# Altium integrated library National Semiconductor Switcher.IntLib: 2226 symbols (part 43 of 59)
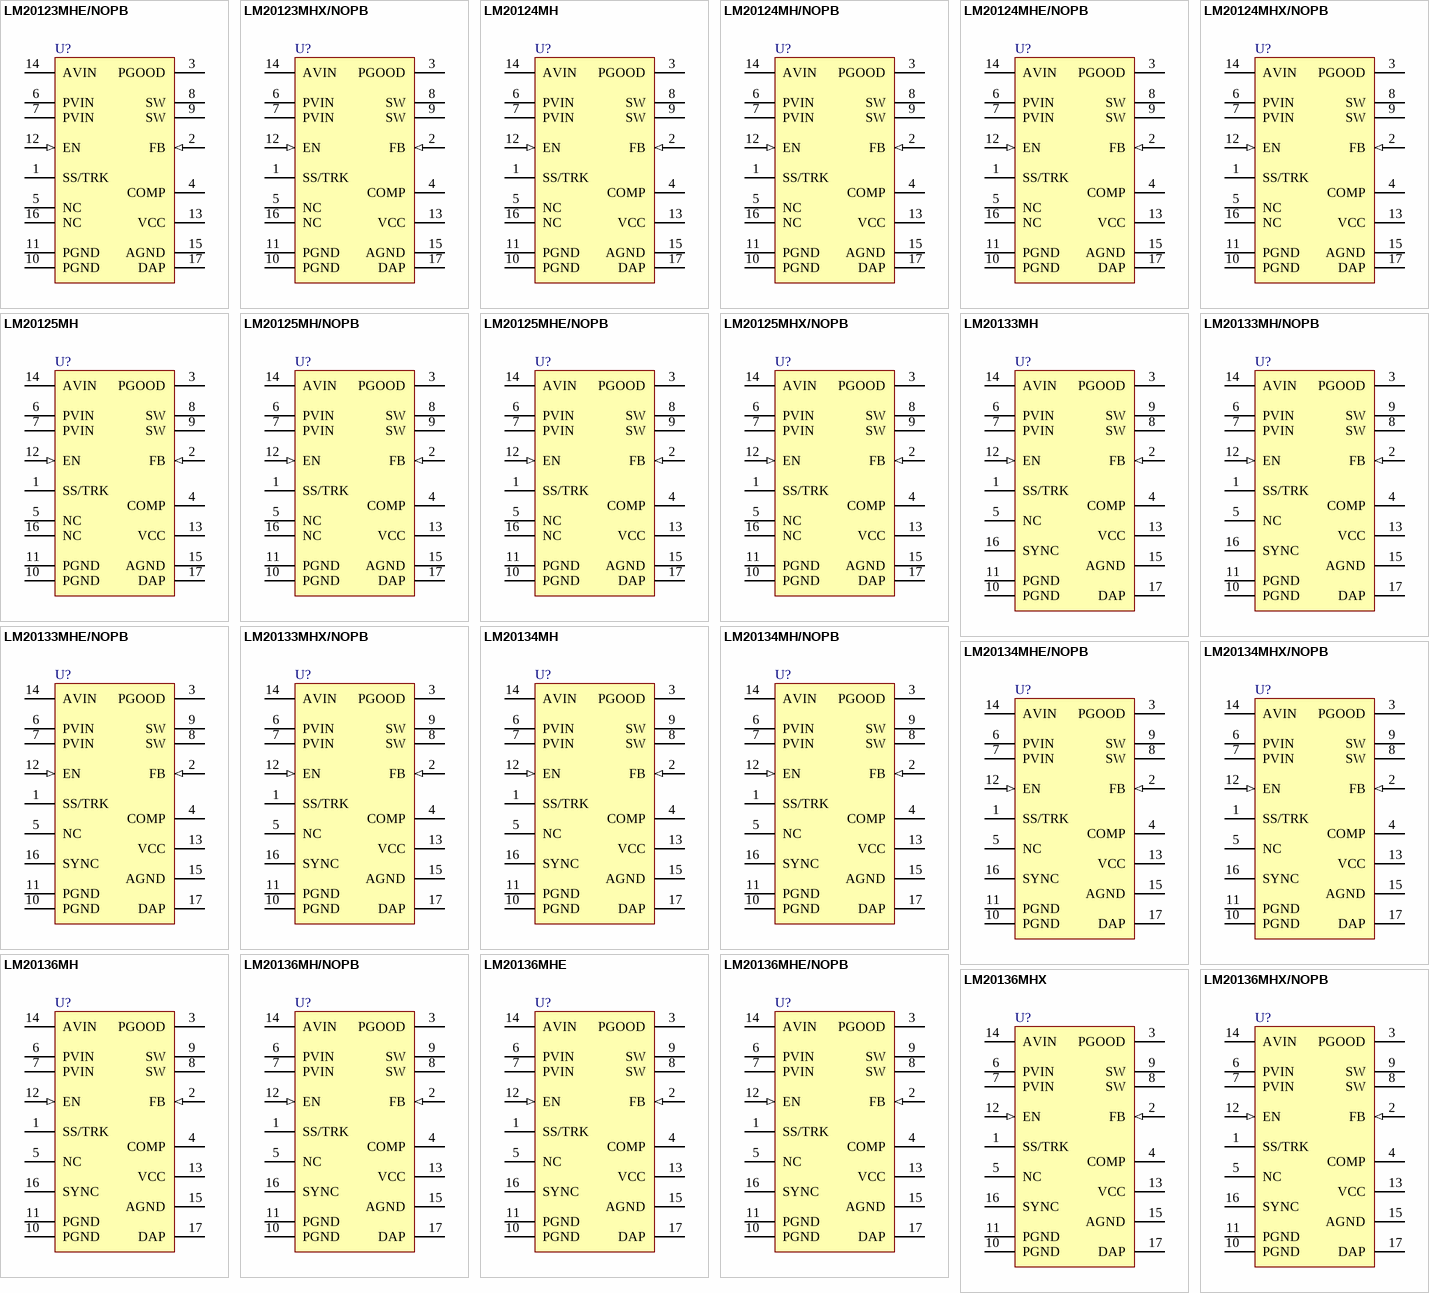
[diagram p111: symbols LM20123MHE/NOPB to LM20136MHX/NOPB]

## LM20124MHE/NOPB
designator U?
4A, 1MHz PowerWise Synchronous Buck Regulator, 16-pin TSSOP-EP, Pb-Free; PartNumber: LM20124MHE/NOPB; Manufacturer: National Semiconductor; PackageTopMarking: NSUZXYTT*20124*MH; PowerWise: Y; CompType: Switcher; DatasheetVersion: Jan-2008; PackageVersion: revA, Apr-2003; PackageReference: MXA16A; PackageDescription: Molded TSSOP, Jedec, Exposed Pad, 5.0 x 4.4 x 0.9mm Body,16 Lead, 0.65mm Pitch; RoHS: Y; PinCount: 16; High-Reliability: Y; Code_JEDEC: MO-153-ABT; ComponentLink1Description: Manufacturer URL; ComponentLink1URL: http://www.national.com/; ComponentLink2Description: LM20124 Datasheet; ComponentLink2URL: http://www.national.com/ds/LM/LM20124.pdf; ComponentLink3Description: LM20124 Web Page; ComponentLink3URL: http://www.national.com/pf/LM/LM20124.html; ComponentLink4Description: MXA16A Package Page; ComponentLink4URL: http://www.national.com/packaging/folders/mxa16a.html
footprint MXA16A_N (TSOP, 16-Leads, Body 5x4.4mm, Pitch 0.65mm, Thermal Pad, IPC Medium Density)
footprint MXA16A_L (TSOP, 16-Leads, Body 5x4.4mm, Pitch 0.65mm, Thermal Pad, IPC High Density)
footprint MXA16A_M (TSOP, 16-Leads, Body 5x4.4mm, Pitch 0.65mm, Thermal Pad, IPC Low Density)
pins: 1 SS/TRK, 2 FB (in), 3 PGOOD (oc), 4 COMP, 5 NC, 6 PVIN (power), 7 PVIN (power), 8 SW (power), 9 SW (power), 10 PGND (power), 11 PGND (power), 12 EN (in), 13 VCC (power), 14 AVIN (power), 15 AGND (power), 16 NC, 17 DAP (power)

## LM20124MHX/NOPB
designator U?
4A, 1MHz PowerWise Synchronous Buck Regulator, 16-pin TSSOP-EP, Pb-Free; PartNumber: LM20124MHX/NOPB; Manufacturer: National Semiconductor; PackageTopMarking: NSUZXYTT*20124*MH; PowerWise: Y; CompType: Switcher; DatasheetVersion: Jan-2008; PackageVersion: revA, Apr-2003; PackageReference: MXA16A; PackageDescription: Molded TSSOP, Jedec, Exposed Pad, 5.0 x 4.4 x 0.9mm Body,16 Lead, 0.65mm Pitch; RoHS: Y; PinCount: 16; High-Reliability: Y; Code_JEDEC: MO-153-ABT; ComponentLink1Description: Manufacturer URL; ComponentLink1URL: http://www.national.com/; ComponentLink2Description: LM20124 Datasheet; ComponentLink2URL: http://www.national.com/ds/LM/LM20124.pdf; ComponentLink3Description: LM20124 Web Page; ComponentLink3URL: http://www.national.com/pf/LM/LM20124.html; ComponentLink4Description: MXA16A Package Page; ComponentLink4URL: http://www.national.com/packaging/folders/mxa16a.html
footprint MXA16A_N (TSOP, 16-Leads, Body 5x4.4mm, Pitch 0.65mm, Thermal Pad, IPC Medium Density)
footprint MXA16A_L (TSOP, 16-Leads, Body 5x4.4mm, Pitch 0.65mm, Thermal Pad, IPC High Density)
footprint MXA16A_M (TSOP, 16-Leads, Body 5x4.4mm, Pitch 0.65mm, Thermal Pad, IPC Low Density)
pins: 1 SS/TRK, 2 FB (in), 3 PGOOD (oc), 4 COMP, 5 NC, 6 PVIN (power), 7 PVIN (power), 8 SW (power), 9 SW (power), 10 PGND (power), 11 PGND (power), 12 EN (in), 13 VCC (power), 14 AVIN (power), 15 AGND (power), 16 NC, 17 DAP (power)

## LM20125MH
designator U?
5A, 500kHz PowerWise Synchronous Buck Regulator, 16-pin TSSOP-EP; PartNumber: LM20125MH; Manufacturer: National Semiconductor; PackageTopMarking: NSUZXYTT*20125*MH; PowerWise: Y; CompType: Switcher; DatasheetVersion: Jan-2008; PackageVersion: revA, Apr-2003; PackageReference: MXA16A; PackageDescription: Molded TSSOP, Jedec, Exposed Pad, 5.0 x 4.4 x 0.9mm Body,16 Lead, 0.65mm Pitch; RoHS: Y; PinCount: 16; High-Reliability: Y; Code_JEDEC: MO-153-ABT; ComponentLink1Description: Manufacturer URL; ComponentLink1URL: http://www.national.com/; ComponentLink2Description: LM20125 Datasheet; ComponentLink2URL: http://www.national.com/ds/LM/LM20125.pdf; ComponentLink3Description: LM20125 Web Page; ComponentLink3URL: http://www.national.com/pf/LM/LM20125.html; ComponentLink4Description: MXA16A Package Page; ComponentLink4URL: http://www.national.com/packaging/folders/mxa16a.html
footprint MXA16A_N (TSOP, 16-Leads, Body 5x4.4mm, Pitch 0.65mm, Thermal Pad, IPC Medium Density)
footprint MXA16A_L (TSOP, 16-Leads, Body 5x4.4mm, Pitch 0.65mm, Thermal Pad, IPC High Density)
footprint MXA16A_M (TSOP, 16-Leads, Body 5x4.4mm, Pitch 0.65mm, Thermal Pad, IPC Low Density)
pins: 1 SS/TRK, 2 FB (in), 3 PGOOD (oc), 4 COMP, 5 NC, 6 PVIN (power), 7 PVIN (power), 8 SW (power), 9 SW (power), 10 PGND (power), 11 PGND (power), 12 EN (in), 13 VCC (power), 14 AVIN (power), 15 AGND (power), 16 NC, 17 DAP (power)

## LM20125MH/NOPB
designator U?
5A, 500kHz PowerWise Synchronous Buck Regulator, 16-pin TSSOP-EP, Pb-Free; PartNumber: LM20125MH/NOPB; Manufacturer: National Semiconductor; PackageTopMarking: NSUZXYTT*20125*MH; PowerWise: Y; CompType: Switcher; DatasheetVersion: Jan-2008; PackageVersion: revA, Apr-2003; PackageReference: MXA16A; PackageDescription: Molded TSSOP, Jedec, Exposed Pad, 5.0 x 4.4 x 0.9mm Body,16 Lead, 0.65mm Pitch; RoHS: Y; PinCount: 16; High-Reliability: Y; Code_JEDEC: MO-153-ABT; ComponentLink1Description: Manufacturer URL; ComponentLink1URL: http://www.national.com/; ComponentLink2Description: LM20125 Datasheet; ComponentLink2URL: http://www.national.com/ds/LM/LM20125.pdf; ComponentLink3Description: LM20125 Web Page; ComponentLink3URL: http://www.national.com/pf/LM/LM20125.html; ComponentLink4Description: MXA16A Package Page; ComponentLink4URL: http://www.national.com/packaging/folders/mxa16a.html
footprint MXA16A_N (TSOP, 16-Leads, Body 5x4.4mm, Pitch 0.65mm, Thermal Pad, IPC Medium Density)
footprint MXA16A_L (TSOP, 16-Leads, Body 5x4.4mm, Pitch 0.65mm, Thermal Pad, IPC High Density)
footprint MXA16A_M (TSOP, 16-Leads, Body 5x4.4mm, Pitch 0.65mm, Thermal Pad, IPC Low Density)
pins: 1 SS/TRK, 2 FB (in), 3 PGOOD (oc), 4 COMP, 5 NC, 6 PVIN (power), 7 PVIN (power), 8 SW (power), 9 SW (power), 10 PGND (power), 11 PGND (power), 12 EN (in), 13 VCC (power), 14 AVIN (power), 15 AGND (power), 16 NC, 17 DAP (power)

## LM20125MHE/NOPB
designator U?
5A, 500kHz PowerWise Synchronous Buck Regulator, 16-pin TSSOP-EP, Pb-Free; PartNumber: LM20125MHE/NOPB; Manufacturer: National Semiconductor; PackageTopMarking: NSUZXYTT*20125*MH; PowerWise: Y; CompType: Switcher; DatasheetVersion: Jan-2008; PackageVersion: revA, Apr-2003; PackageReference: MXA16A; PackageDescription: Molded TSSOP, Jedec, Exposed Pad, 5.0 x 4.4 x 0.9mm Body,16 Lead, 0.65mm Pitch; RoHS: Y; PinCount: 16; High-Reliability: Y; Code_JEDEC: MO-153-ABT; ComponentLink1Description: Manufacturer URL; ComponentLink1URL: http://www.national.com/; ComponentLink2Description: LM20125 Datasheet; ComponentLink2URL: http://www.national.com/ds/LM/LM20125.pdf; ComponentLink3Description: LM20125 Web Page; ComponentLink3URL: http://www.national.com/pf/LM/LM20125.html; ComponentLink4Description: MXA16A Package Page; ComponentLink4URL: http://www.national.com/packaging/folders/mxa16a.html
footprint MXA16A_N (TSOP, 16-Leads, Body 5x4.4mm, Pitch 0.65mm, Thermal Pad, IPC Medium Density)
footprint MXA16A_L (TSOP, 16-Leads, Body 5x4.4mm, Pitch 0.65mm, Thermal Pad, IPC High Density)
footprint MXA16A_M (TSOP, 16-Leads, Body 5x4.4mm, Pitch 0.65mm, Thermal Pad, IPC Low Density)
pins: 1 SS/TRK, 2 FB (in), 3 PGOOD (oc), 4 COMP, 5 NC, 6 PVIN (power), 7 PVIN (power), 8 SW (power), 9 SW (power), 10 PGND (power), 11 PGND (power), 12 EN (in), 13 VCC (power), 14 AVIN (power), 15 AGND (power), 16 NC, 17 DAP (power)

## LM20125MHX/NOPB
designator U?
5A, 500kHz PowerWise Synchronous Buck Regulator, 16-pin TSSOP-EP, Pb-Free; PartNumber: LM20125MHX/NOPB; Manufacturer: National Semiconductor; PackageTopMarking: NSUZXYTT*20125*MH; PowerWise: Y; CompType: Switcher; DatasheetVersion: Jan-2008; PackageVersion: revA, Apr-2003; PackageReference: MXA16A; PackageDescription: Molded TSSOP, Jedec, Exposed Pad, 5.0 x 4.4 x 0.9mm Body,16 Lead, 0.65mm Pitch; RoHS: Y; PinCount: 16; High-Reliability: Y; Code_JEDEC: MO-153-ABT; ComponentLink1Description: Manufacturer URL; ComponentLink1URL: http://www.national.com/; ComponentLink2Description: LM20125 Datasheet; ComponentLink2URL: http://www.national.com/ds/LM/LM20125.pdf; ComponentLink3Description: LM20125 Web Page; ComponentLink3URL: http://www.national.com/pf/LM/LM20125.html; ComponentLink4Description: MXA16A Package Page; ComponentLink4URL: http://www.national.com/packaging/folders/mxa16a.html
footprint MXA16A_N (TSOP, 16-Leads, Body 5x4.4mm, Pitch 0.65mm, Thermal Pad, IPC Medium Density)
footprint MXA16A_L (TSOP, 16-Leads, Body 5x4.4mm, Pitch 0.65mm, Thermal Pad, IPC High Density)
footprint MXA16A_M (TSOP, 16-Leads, Body 5x4.4mm, Pitch 0.65mm, Thermal Pad, IPC Low Density)
pins: 1 SS/TRK, 2 FB (in), 3 PGOOD (oc), 4 COMP, 5 NC, 6 PVIN (power), 7 PVIN (power), 8 SW (power), 9 SW (power), 10 PGND (power), 11 PGND (power), 12 EN (in), 13 VCC (power), 14 AVIN (power), 15 AGND (power), 16 NC, 17 DAP (power)

## LM20133MH
designator U?
3A, PowerWise Synchronous Buck Regulator with Input Synchronization, 16-pin TSSOP-EP; PartNumber: LM20133MH; Manufacturer: National Semiconductor; PackageTopMarking: NSUZXYTT*20133*MH; PowerWise: Y; CompType: Switcher; DatasheetVersion: Jan-2008; PackageVersion: revA, Apr-2003; PackageReference: MXA16A; PackageDescription: Molded TSSOP, Jedec, Exposed Pad, 5.0 x 4.4 x 0.9mm Body,16 Lead, 0.65mm Pitch; RoHS: Y; PinCount: 16; High-Reliability: Y; Code_JEDEC: MO-153-ABT; ComponentLink1Description: Manufacturer URL; ComponentLink1URL: http://www.national.com/; ComponentLink2Description: LM20133 Datasheet; ComponentLink2URL: http://www.national.com/ds/LM/LM20133.pdf; ComponentLink3Description: LM20133 Web Page; ComponentLink3URL: http://www.national.com/pf/LM/LM20133.html; ComponentLink4Description: MXA16A Package Page; ComponentLink4URL: http://www.national.com/packaging/folders/mxa16a.html
footprint MXA16A_N (TSOP, 16-Leads, Body 5x4.4mm, Pitch 0.65mm, Thermal Pad, IPC Medium Density)
footprint MXA16A_L (TSOP, 16-Leads, Body 5x4.4mm, Pitch 0.65mm, Thermal Pad, IPC High Density)
footprint MXA16A_M (TSOP, 16-Leads, Body 5x4.4mm, Pitch 0.65mm, Thermal Pad, IPC Low Density)
pins: 1 SS/TRK, 2 FB (in), 3 PGOOD (oc), 4 COMP, 5 NC, 6 PVIN (power), 7 PVIN (power), 8 SW (power), 9 SW (power), 10 PGND (power), 11 PGND (power), 12 EN (in), 13 VCC (power), 14 AVIN (power), 15 AGND (power), 16 SYNC, 17 DAP (power)

## LM20133MH/NOPB
designator U?
3A, PowerWise Synchronous Buck Regulator with Input Synchronization, 16-pin TSSOP-EP, Pb-Free; PartNumber: LM20133MH/NOPB; Manufacturer: National Semiconductor; PackageTopMarking: NSUZXYTT*20133*MH; PowerWise: Y; CompType: Switcher; DatasheetVersion: Jan-2008; PackageVersion: revA, Apr-2003; PackageReference: MXA16A; PackageDescription: Molded TSSOP, Jedec, Exposed Pad, 5.0 x 4.4 x 0.9mm Body,16 Lead, 0.65mm Pitch; RoHS: Y; PinCount: 16; High-Reliability: Y; Code_JEDEC: MO-153-ABT; ComponentLink1Description: Manufacturer URL; ComponentLink1URL: http://www.national.com/; ComponentLink2Description: LM20133 Datasheet; ComponentLink2URL: http://www.national.com/ds/LM/LM20133.pdf; ComponentLink3Description: LM20133 Web Page; ComponentLink3URL: http://www.national.com/pf/LM/LM20133.html; ComponentLink4Description: MXA16A Package Page; ComponentLink4URL: http://www.national.com/packaging/folders/mxa16a.html
footprint MXA16A_N (TSOP, 16-Leads, Body 5x4.4mm, Pitch 0.65mm, Thermal Pad, IPC Medium Density)
footprint MXA16A_L (TSOP, 16-Leads, Body 5x4.4mm, Pitch 0.65mm, Thermal Pad, IPC High Density)
footprint MXA16A_M (TSOP, 16-Leads, Body 5x4.4mm, Pitch 0.65mm, Thermal Pad, IPC Low Density)
pins: 1 SS/TRK, 2 FB (in), 3 PGOOD (oc), 4 COMP, 5 NC, 6 PVIN (power), 7 PVIN (power), 8 SW (power), 9 SW (power), 10 PGND (power), 11 PGND (power), 12 EN (in), 13 VCC (power), 14 AVIN (power), 15 AGND (power), 16 SYNC, 17 DAP (power)

## LM20133MHE/NOPB
designator U?
3A, PowerWise Synchronous Buck Regulator with Input Synchronization, 16-pin TSSOP-EP, Pb-Free; PartNumber: LM20133MHE/NOPB; Manufacturer: National Semiconductor; PackageTopMarking: NSUZXYTT*20133*MH; PowerWise: Y; CompType: Switcher; DatasheetVersion: Jan-2008; PackageVersion: revA, Apr-2003; PackageReference: MXA16A; PackageDescription: Molded TSSOP, Jedec, Exposed Pad, 5.0 x 4.4 x 0.9mm Body,16 Lead, 0.65mm Pitch; RoHS: Y; PinCount: 16; High-Reliability: Y; Code_JEDEC: MO-153-ABT; ComponentLink1Description: Manufacturer URL; ComponentLink1URL: http://www.national.com/; ComponentLink2Description: LM20133 Datasheet; ComponentLink2URL: http://www.national.com/ds/LM/LM20133.pdf; ComponentLink3Description: LM20133 Web Page; ComponentLink3URL: http://www.national.com/pf/LM/LM20133.html; ComponentLink4Description: MXA16A Package Page; ComponentLink4URL: http://www.national.com/packaging/folders/mxa16a.html
footprint MXA16A_N (TSOP, 16-Leads, Body 5x4.4mm, Pitch 0.65mm, Thermal Pad, IPC Medium Density)
footprint MXA16A_L (TSOP, 16-Leads, Body 5x4.4mm, Pitch 0.65mm, Thermal Pad, IPC High Density)
footprint MXA16A_M (TSOP, 16-Leads, Body 5x4.4mm, Pitch 0.65mm, Thermal Pad, IPC Low Density)
pins: 1 SS/TRK, 2 FB (in), 3 PGOOD (oc), 4 COMP, 5 NC, 6 PVIN (power), 7 PVIN (power), 8 SW (power), 9 SW (power), 10 PGND (power), 11 PGND (power), 12 EN (in), 13 VCC (power), 14 AVIN (power), 15 AGND (power), 16 SYNC, 17 DAP (power)

## LM20133MHX/NOPB
designator U?
3A, PowerWise Synchronous Buck Regulator with Input Synchronization, 16-pin TSSOP-EP, Pb-Free; PartNumber: LM20133MHX/NOPB; Manufacturer: National Semiconductor; PackageTopMarking: NSUZXYTT*20133*MH; PowerWise: Y; CompType: Switcher; DatasheetVersion: Jan-2008; PackageVersion: revA, Apr-2003; PackageReference: MXA16A; PackageDescription: Molded TSSOP, Jedec, Exposed Pad, 5.0 x 4.4 x 0.9mm Body,16 Lead, 0.65mm Pitch; RoHS: Y; PinCount: 16; High-Reliability: Y; Code_JEDEC: MO-153-ABT; ComponentLink1Description: Manufacturer URL; ComponentLink1URL: http://www.national.com/; ComponentLink2Description: LM20133 Datasheet; ComponentLink2URL: http://www.national.com/ds/LM/LM20133.pdf; ComponentLink3Description: LM20133 Web Page; ComponentLink3URL: http://www.national.com/pf/LM/LM20133.html; ComponentLink4Description: MXA16A Package Page; ComponentLink4URL: http://www.national.com/packaging/folders/mxa16a.html
footprint MXA16A_N (TSOP, 16-Leads, Body 5x4.4mm, Pitch 0.65mm, Thermal Pad, IPC Medium Density)
footprint MXA16A_L (TSOP, 16-Leads, Body 5x4.4mm, Pitch 0.65mm, Thermal Pad, IPC High Density)
footprint MXA16A_M (TSOP, 16-Leads, Body 5x4.4mm, Pitch 0.65mm, Thermal Pad, IPC Low Density)
pins: 1 SS/TRK, 2 FB (in), 3 PGOOD (oc), 4 COMP, 5 NC, 6 PVIN (power), 7 PVIN (power), 8 SW (power), 9 SW (power), 10 PGND (power), 11 PGND (power), 12 EN (in), 13 VCC (power), 14 AVIN (power), 15 AGND (power), 16 SYNC, 17 DAP (power)

## LM20134MH
designator U?
4A, PowerWise Synchronous Buck Regulator with Input Synchronization, 16-pin TSSOP-EP; PartNumber: LM20134MH; Manufacturer: National Semiconductor; PackageTopMarking: NSUZXYTT*20134*MH; PowerWise: Y; CompType: Switcher; DatasheetVersion: Jan-2008; PackageVersion: revA, Apr-2003; PackageReference: MXA16A; PackageDescription: Molded TSSOP, Jedec, Exposed Pad, 5.0 x 4.4 x 0.9mm Body,16 Lead, 0.65mm Pitch; RoHS: Y; PinCount: 16; High-Reliability: Y; Code_JEDEC: MO-153-ABT; ComponentLink1Description: Manufacturer URL; ComponentLink1URL: http://www.national.com/; ComponentLink2Description: LM20134 Datasheet; ComponentLink2URL: http://www.national.com/ds/LM/LM20134.pdf; ComponentLink3Description: LM20134 Web Page; ComponentLink3URL: http://www.national.com/pf/LM/LM20134.html; ComponentLink4Description: MXA16A Package Page; ComponentLink4URL: http://www.national.com/packaging/folders/mxa16a.html
footprint MXA16A_N (TSOP, 16-Leads, Body 5x4.4mm, Pitch 0.65mm, Thermal Pad, IPC Medium Density)
footprint MXA16A_L (TSOP, 16-Leads, Body 5x4.4mm, Pitch 0.65mm, Thermal Pad, IPC High Density)
footprint MXA16A_M (TSOP, 16-Leads, Body 5x4.4mm, Pitch 0.65mm, Thermal Pad, IPC Low Density)
pins: 1 SS/TRK, 2 FB (in), 3 PGOOD (oc), 4 COMP, 5 NC, 6 PVIN (power), 7 PVIN (power), 8 SW (power), 9 SW (power), 10 PGND (power), 11 PGND (power), 12 EN (in), 13 VCC (power), 14 AVIN (power), 15 AGND (power), 16 SYNC, 17 DAP (power)

## LM20134MH/NOPB
designator U?
4A, PowerWise Synchronous Buck Regulator with Input Synchronization, 16-pin TSSOP-EP, Pb-Free; PartNumber: LM20134MH/NOPB; Manufacturer: National Semiconductor; PackageTopMarking: NSUZXYTT*20134*MH; PowerWise: Y; CompType: Switcher; DatasheetVersion: Jan-2008; PackageVersion: revA, Apr-2003; PackageReference: MXA16A; PackageDescription: Molded TSSOP, Jedec, Exposed Pad, 5.0 x 4.4 x 0.9mm Body,16 Lead, 0.65mm Pitch; RoHS: Y; PinCount: 16; High-Reliability: Y; Code_JEDEC: MO-153-ABT; ComponentLink1Description: Manufacturer URL; ComponentLink1URL: http://www.national.com/; ComponentLink2Description: LM20134 Datasheet; ComponentLink2URL: http://www.national.com/ds/LM/LM20134.pdf; ComponentLink3Description: LM20134 Web Page; ComponentLink3URL: http://www.national.com/pf/LM/LM20134.html; ComponentLink4Description: MXA16A Package Page; ComponentLink4URL: http://www.national.com/packaging/folders/mxa16a.html
footprint MXA16A_N (TSOP, 16-Leads, Body 5x4.4mm, Pitch 0.65mm, Thermal Pad, IPC Medium Density)
footprint MXA16A_L (TSOP, 16-Leads, Body 5x4.4mm, Pitch 0.65mm, Thermal Pad, IPC High Density)
footprint MXA16A_M (TSOP, 16-Leads, Body 5x4.4mm, Pitch 0.65mm, Thermal Pad, IPC Low Density)
pins: 1 SS/TRK, 2 FB (in), 3 PGOOD (oc), 4 COMP, 5 NC, 6 PVIN (power), 7 PVIN (power), 8 SW (power), 9 SW (power), 10 PGND (power), 11 PGND (power), 12 EN (in), 13 VCC (power), 14 AVIN (power), 15 AGND (power), 16 SYNC, 17 DAP (power)

## LM20134MHE/NOPB
designator U?
4A, PowerWise Synchronous Buck Regulator with Input Synchronization, 16-pin TSSOP-EP, Pb-Free; PartNumber: LM20134MHE/NOPB; Manufacturer: National Semiconductor; PackageTopMarking: NSUZXYTT*20134*MH; PowerWise: Y; CompType: Switcher; DatasheetVersion: Jan-2008; PackageVersion: revA, Apr-2003; PackageReference: MXA16A; PackageDescription: Molded TSSOP, Jedec, Exposed Pad, 5.0 x 4.4 x 0.9mm Body,16 Lead, 0.65mm Pitch; RoHS: Y; PinCount: 16; High-Reliability: Y; Code_JEDEC: MO-153-ABT; ComponentLink1Description: Manufacturer URL; ComponentLink1URL: http://www.national.com/; ComponentLink2Description: LM20134 Datasheet; ComponentLink2URL: http://www.national.com/ds/LM/LM20134.pdf; ComponentLink3Description: LM20134 Web Page; ComponentLink3URL: http://www.national.com/pf/LM/LM20134.html; ComponentLink4Description: MXA16A Package Page; ComponentLink4URL: http://www.national.com/packaging/folders/mxa16a.html
footprint MXA16A_N (TSOP, 16-Leads, Body 5x4.4mm, Pitch 0.65mm, Thermal Pad, IPC Medium Density)
footprint MXA16A_L (TSOP, 16-Leads, Body 5x4.4mm, Pitch 0.65mm, Thermal Pad, IPC High Density)
footprint MXA16A_M (TSOP, 16-Leads, Body 5x4.4mm, Pitch 0.65mm, Thermal Pad, IPC Low Density)
pins: 1 SS/TRK, 2 FB (in), 3 PGOOD (oc), 4 COMP, 5 NC, 6 PVIN (power), 7 PVIN (power), 8 SW (power), 9 SW (power), 10 PGND (power), 11 PGND (power), 12 EN (in), 13 VCC (power), 14 AVIN (power), 15 AGND (power), 16 SYNC, 17 DAP (power)

## LM20134MHX/NOPB
designator U?
4A, PowerWise Synchronous Buck Regulator with Input Synchronization, 16-pin TSSOP-EP, Pb-Free; PartNumber: LM20134MHX/NOPB; Manufacturer: National Semiconductor; PackageTopMarking: NSUZXYTT*20134*MH; PowerWise: Y; CompType: Switcher; DatasheetVersion: Jan-2008; PackageVersion: revA, Apr-2003; PackageReference: MXA16A; PackageDescription: Molded TSSOP, Jedec, Exposed Pad, 5.0 x 4.4 x 0.9mm Body,16 Lead, 0.65mm Pitch; RoHS: Y; PinCount: 16; High-Reliability: Y; Code_JEDEC: MO-153-ABT; ComponentLink1Description: Manufacturer URL; ComponentLink1URL: http://www.national.com/; ComponentLink2Description: LM20134 Datasheet; ComponentLink2URL: http://www.national.com/ds/LM/LM20134.pdf; ComponentLink3Description: LM20134 Web Page; ComponentLink3URL: http://www.national.com/pf/LM/LM20134.html; ComponentLink4Description: MXA16A Package Page; ComponentLink4URL: http://www.national.com/packaging/folders/mxa16a.html
footprint MXA16A_N (TSOP, 16-Leads, Body 5x4.4mm, Pitch 0.65mm, Thermal Pad, IPC Medium Density)
footprint MXA16A_L (TSOP, 16-Leads, Body 5x4.4mm, Pitch 0.65mm, Thermal Pad, IPC High Density)
footprint MXA16A_M (TSOP, 16-Leads, Body 5x4.4mm, Pitch 0.65mm, Thermal Pad, IPC Low Density)
pins: 1 SS/TRK, 2 FB (in), 3 PGOOD (oc), 4 COMP, 5 NC, 6 PVIN (power), 7 PVIN (power), 8 SW (power), 9 SW (power), 10 PGND (power), 11 PGND (power), 12 EN (in), 13 VCC (power), 14 AVIN (power), 15 AGND (power), 16 SYNC, 17 DAP (power)

## LM20136MH
designator U?
6A, Synchronous Buck Regulator with Input Synchronization, 16-pin TSSOP-EP; PartNumber: LM20136MH; Manufacturer: National Semiconductor; PackageTopMarking: NSUZXYTT*L20136*MH; PowerWise: Y; CompType: Switcher; DatasheetVersion: Feb-2009; PackageVersion: revA, Apr-2003; PackageReference: MXA16A; PackageDescription: Molded TSSOP, Jedec, Exposed Pad, 5.0 x 4.4 x 0.9mm Body,16 Lead, 0.65mm Pitch; RoHS: Y; PinCount: 16; High-Reliability: Y; Code_JEDEC: MO-153-ABT; ComponentLink1Description: Manufacturer URL; ComponentLink1URL: http://www.national.com/; ComponentLink2Description: LM20136 Datasheet; ComponentLink2URL: http://www.national.com/ds/LM/LM20136.pdf; ComponentLink3Description: LM20136 Web Page; ComponentLink3URL: http://www.national.com/pf/LM/LM20136.html; ComponentLink4Description: MXA16A Package Page; ComponentLink4URL: http://www.national.com/packaging/folders/mxa16a.html
footprint MXA16A_N (TSOP, 16-Leads, Body 5x4.4mm, Pitch 0.65mm, Thermal Pad, IPC Medium Density)
footprint MXA16A_L (TSOP, 16-Leads, Body 5x4.4mm, Pitch 0.65mm, Thermal Pad, IPC High Density)
footprint MXA16A_M (TSOP, 16-Leads, Body 5x4.4mm, Pitch 0.65mm, Thermal Pad, IPC Low Density)
pins: 1 SS/TRK, 2 FB (in), 3 PGOOD (oc), 4 COMP, 5 NC, 6 PVIN (power), 7 PVIN (power), 8 SW (power), 9 SW (power), 10 PGND (power), 11 PGND (power), 12 EN (in), 13 VCC (power), 14 AVIN (power), 15 AGND (power), 16 SYNC, 17 DAP (power)

## LM20136MH/NOPB
designator U?
6A, Synchronous Buck Regulator with Input Synchronization, 16-pin TSSOP-EP, Pb-Free; PartNumber: LM20136MH/NOPB; Manufacturer: National Semiconductor; PackageTopMarking: NSUZXYTT*L20136*MH; PowerWise: Y; CompType: Switcher; DatasheetVersion: Feb-2009; PackageVersion: revA, Apr-2003; PackageReference: MXA16A; PackageDescription: Molded TSSOP, Jedec, Exposed Pad, 5.0 x 4.4 x 0.9mm Body,16 Lead, 0.65mm Pitch; RoHS: Y; PinCount: 16; High-Reliability: Y; Code_JEDEC: MO-153-ABT; ComponentLink1Description: Manufacturer URL; ComponentLink1URL: http://www.national.com/; ComponentLink2Description: LM20136 Datasheet; ComponentLink2URL: http://www.national.com/ds/LM/LM20136.pdf; ComponentLink3Description: LM20136 Web Page; ComponentLink3URL: http://www.national.com/pf/LM/LM20136.html; ComponentLink4Description: MXA16A Package Page; ComponentLink4URL: http://www.national.com/packaging/folders/mxa16a.html
footprint MXA16A_N (TSOP, 16-Leads, Body 5x4.4mm, Pitch 0.65mm, Thermal Pad, IPC Medium Density)
footprint MXA16A_L (TSOP, 16-Leads, Body 5x4.4mm, Pitch 0.65mm, Thermal Pad, IPC High Density)
footprint MXA16A_M (TSOP, 16-Leads, Body 5x4.4mm, Pitch 0.65mm, Thermal Pad, IPC Low Density)
pins: 1 SS/TRK, 2 FB (in), 3 PGOOD (oc), 4 COMP, 5 NC, 6 PVIN (power), 7 PVIN (power), 8 SW (power), 9 SW (power), 10 PGND (power), 11 PGND (power), 12 EN (in), 13 VCC (power), 14 AVIN (power), 15 AGND (power), 16 SYNC, 17 DAP (power)

## LM20136MHE
designator U?
6A, Synchronous Buck Regulator with Input Synchronization, 16-pin TSSOP-EP; PartNumber: LM20136MHE; Manufacturer: National Semiconductor; PackageTopMarking: NSUZXYTT*L20136*MH; PowerWise: Y; CompType: Switcher; DatasheetVersion: Feb-2009; PackageVersion: revA, Apr-2003; PackageReference: MXA16A; PackageDescription: Molded TSSOP, Jedec, Exposed Pad, 5.0 x 4.4 x 0.9mm Body,16 Lead, 0.65mm Pitch; RoHS: Y; PinCount: 16; High-Reliability: Y; Code_JEDEC: MO-153-ABT; ComponentLink1Description: Manufacturer URL; ComponentLink1URL: http://www.national.com/; ComponentLink2Description: LM20136 Datasheet; ComponentLink2URL: http://www.national.com/ds/LM/LM20136.pdf; ComponentLink3Description: LM20136 Web Page; ComponentLink3URL: http://www.national.com/pf/LM/LM20136.html; ComponentLink4Description: MXA16A Package Page; ComponentLink4URL: http://www.national.com/packaging/folders/mxa16a.html
footprint MXA16A_N (TSOP, 16-Leads, Body 5x4.4mm, Pitch 0.65mm, Thermal Pad, IPC Medium Density)
footprint MXA16A_L (TSOP, 16-Leads, Body 5x4.4mm, Pitch 0.65mm, Thermal Pad, IPC High Density)
footprint MXA16A_M (TSOP, 16-Leads, Body 5x4.4mm, Pitch 0.65mm, Thermal Pad, IPC Low Density)
pins: 1 SS/TRK, 2 FB (in), 3 PGOOD (oc), 4 COMP, 5 NC, 6 PVIN (power), 7 PVIN (power), 8 SW (power), 9 SW (power), 10 PGND (power), 11 PGND (power), 12 EN (in), 13 VCC (power), 14 AVIN (power), 15 AGND (power), 16 SYNC, 17 DAP (power)

## LM20136MHE/NOPB
designator U?
6A, Synchronous Buck Regulator with Input Synchronization, 16-pin TSSOP-EP, Pb-Free; PartNumber: LM20136MHE/NOPB; Manufacturer: National Semiconductor; PackageTopMarking: NSUZXYTT*L20136*MH; PowerWise: Y; CompType: Switcher; DatasheetVersion: Feb-2009; PackageVersion: revA, Apr-2003; PackageReference: MXA16A; PackageDescription: Molded TSSOP, Jedec, Exposed Pad, 5.0 x 4.4 x 0.9mm Body,16 Lead, 0.65mm Pitch; RoHS: Y; PinCount: 16; High-Reliability: Y; Code_JEDEC: MO-153-ABT; ComponentLink1Description: Manufacturer URL; ComponentLink1URL: http://www.national.com/; ComponentLink2Description: LM20136 Datasheet; ComponentLink2URL: http://www.national.com/ds/LM/LM20136.pdf; ComponentLink3Description: LM20136 Web Page; ComponentLink3URL: http://www.national.com/pf/LM/LM20136.html; ComponentLink4Description: MXA16A Package Page; ComponentLink4URL: http://www.national.com/packaging/folders/mxa16a.html
footprint MXA16A_N (TSOP, 16-Leads, Body 5x4.4mm, Pitch 0.65mm, Thermal Pad, IPC Medium Density)
footprint MXA16A_L (TSOP, 16-Leads, Body 5x4.4mm, Pitch 0.65mm, Thermal Pad, IPC High Density)
footprint MXA16A_M (TSOP, 16-Leads, Body 5x4.4mm, Pitch 0.65mm, Thermal Pad, IPC Low Density)
pins: 1 SS/TRK, 2 FB (in), 3 PGOOD (oc), 4 COMP, 5 NC, 6 PVIN (power), 7 PVIN (power), 8 SW (power), 9 SW (power), 10 PGND (power), 11 PGND (power), 12 EN (in), 13 VCC (power), 14 AVIN (power), 15 AGND (power), 16 SYNC, 17 DAP (power)

## LM20136MHX
designator U?
6A, Synchronous Buck Regulator with Input Synchronization, 16-pin TSSOP-EP; PartNumber: LM20136MHX; Manufacturer: National Semiconductor; PackageTopMarking: NSUZXYTT*L20136*MH; PowerWise: Y; CompType: Switcher; DatasheetVersion: Feb-2009; PackageVersion: revA, Apr-2003; PackageReference: MXA16A; PackageDescription: Molded TSSOP, Jedec, Exposed Pad, 5.0 x 4.4 x 0.9mm Body,16 Lead, 0.65mm Pitch; RoHS: Y; PinCount: 16; High-Reliability: Y; Code_JEDEC: MO-153-ABT; ComponentLink1Description: Manufacturer URL; ComponentLink1URL: http://www.national.com/; ComponentLink2Description: LM20136 Datasheet; ComponentLink2URL: http://www.national.com/ds/LM/LM20136.pdf; ComponentLink3Description: LM20136 Web Page; ComponentLink3URL: http://www.national.com/pf/LM/LM20136.html; ComponentLink4Description: MXA16A Package Page; ComponentLink4URL: http://www.national.com/packaging/folders/mxa16a.html
footprint MXA16A_N (TSOP, 16-Leads, Body 5x4.4mm, Pitch 0.65mm, Thermal Pad, IPC Medium Density)
footprint MXA16A_L (TSOP, 16-Leads, Body 5x4.4mm, Pitch 0.65mm, Thermal Pad, IPC High Density)
footprint MXA16A_M (TSOP, 16-Leads, Body 5x4.4mm, Pitch 0.65mm, Thermal Pad, IPC Low Density)
pins: 1 SS/TRK, 2 FB (in), 3 PGOOD (oc), 4 COMP, 5 NC, 6 PVIN (power), 7 PVIN (power), 8 SW (power), 9 SW (power), 10 PGND (power), 11 PGND (power), 12 EN (in), 13 VCC (power), 14 AVIN (power), 15 AGND (power), 16 SYNC, 17 DAP (power)

## LM20136MHX/NOPB
designator U?
6A, Synchronous Buck Regulator with Input Synchronization, 16-pin TSSOP-EP, Pb-Free; PartNumber: LM20136MHX/NOPB; Manufacturer: National Semiconductor; PackageTopMarking: NSUZXYTT*L20136*MH; PowerWise: Y; CompType: Switcher; DatasheetVersion: Feb-2009; PackageVersion: revA, Apr-2003; PackageReference: MXA16A; PackageDescription: Molded TSSOP, Jedec, Exposed Pad, 5.0 x 4.4 x 0.9mm Body,16 Lead, 0.65mm Pitch; RoHS: Y; PinCount: 16; High-Reliability: Y; Code_JEDEC: MO-153-ABT; ComponentLink1Description: Manufacturer URL; ComponentLink1URL: http://www.national.com/; ComponentLink2Description: LM20136 Datasheet; ComponentLink2URL: http://www.national.com/ds/LM/LM20136.pdf; ComponentLink3Description: LM20136 Web Page; ComponentLink3URL: http://www.national.com/pf/LM/LM20136.html; ComponentLink4Description: MXA16A Package Page; ComponentLink4URL: http://www.national.com/packaging/folders/mxa16a.html
footprint MXA16A_N (TSOP, 16-Leads, Body 5x4.4mm, Pitch 0.65mm, Thermal Pad, IPC Medium Density)
footprint MXA16A_L (TSOP, 16-Leads, Body 5x4.4mm, Pitch 0.65mm, Thermal Pad, IPC High Density)
footprint MXA16A_M (TSOP, 16-Leads, Body 5x4.4mm, Pitch 0.65mm, Thermal Pad, IPC Low Density)
pins: 1 SS/TRK, 2 FB (in), 3 PGOOD (oc), 4 COMP, 5 NC, 6 PVIN (power), 7 PVIN (power), 8 SW (power), 9 SW (power), 10 PGND (power), 11 PGND (power), 12 EN (in), 13 VCC (power), 14 AVIN (power), 15 AGND (power), 16 SYNC, 17 DAP (power)

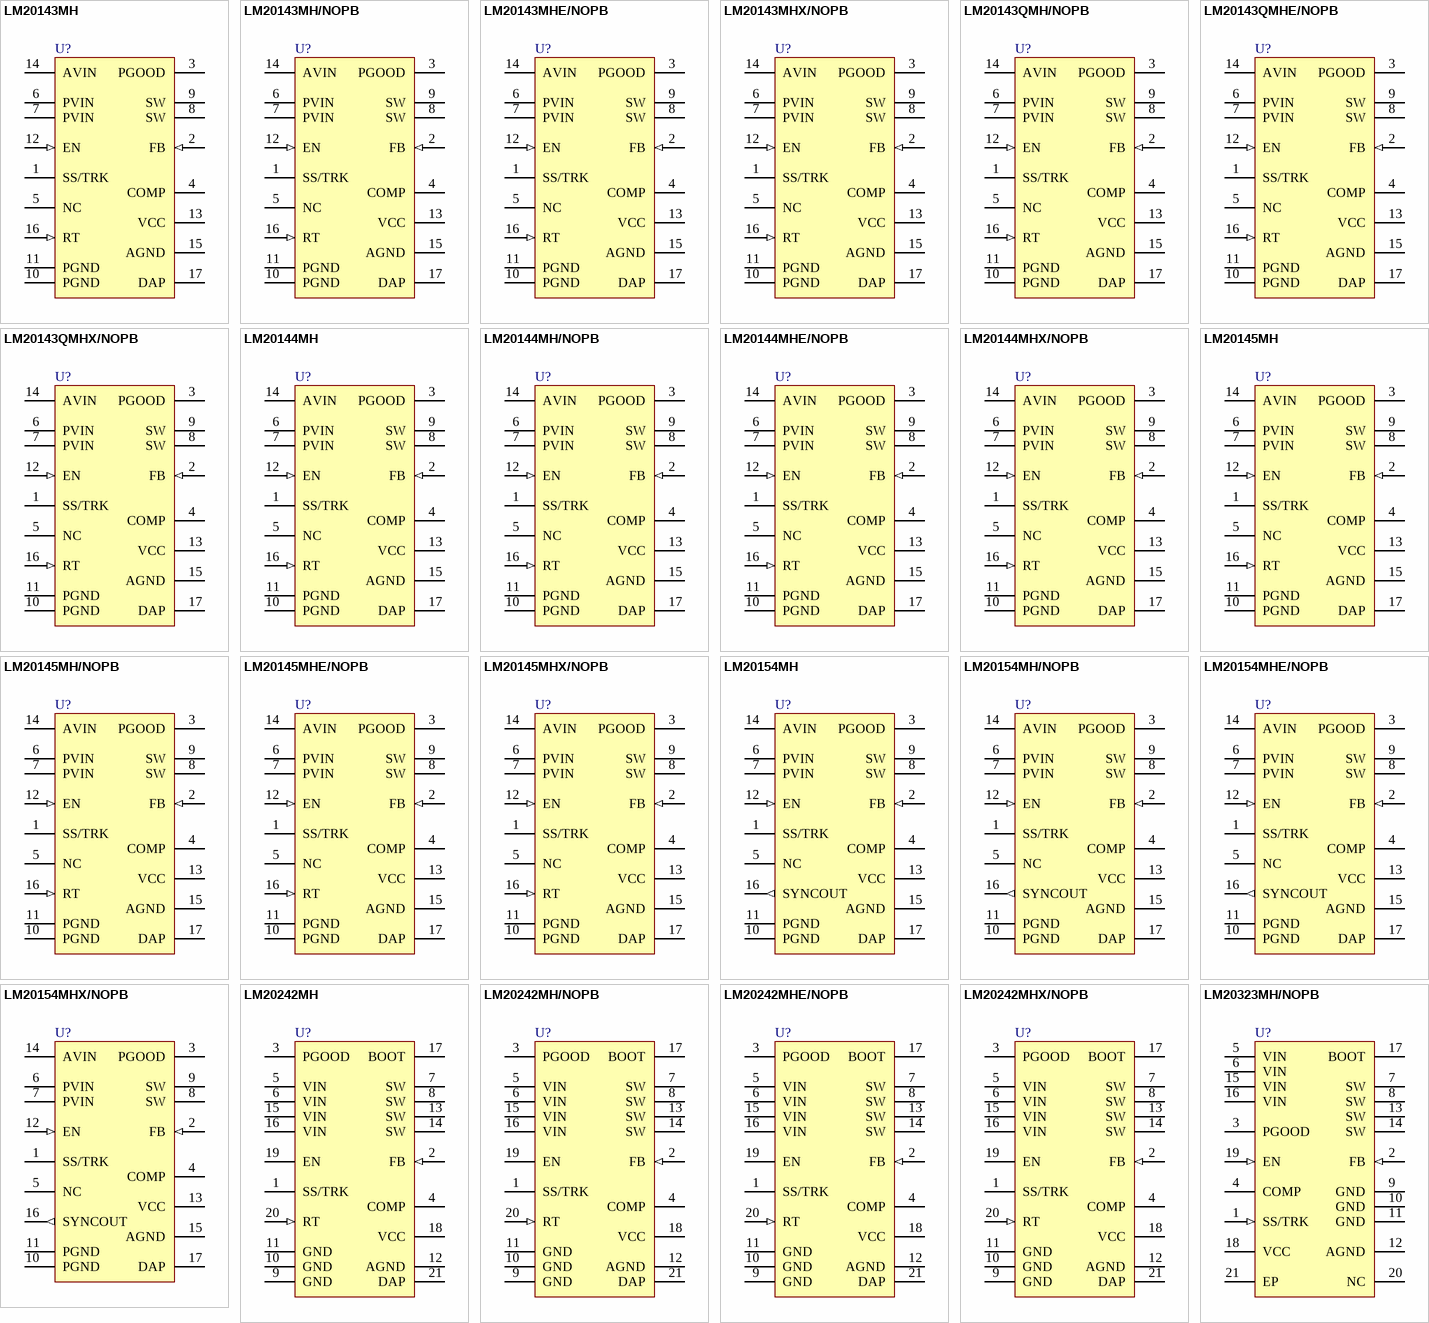
[diagram p49: symbols LM20143MH to LM20323MH/NOPB]

## LM20143MH
designator U?
3A, PowerWise Adjustable Frequency Synchronous Buck Regulator, 16-pin TSSOP-EP; PartNumber: LM20143MH; Manufacturer: National Semiconductor; PackageTopMarking: NSUZXYTT*20143*MH; PowerWise: Y; CompType: Switcher; DatasheetVersion: Jan-2008; PackageVersion: revA, Apr-2003; PackageReference: MXA16A; PackageDescription: Molded TSSOP, Jedec, Exposed Pad, 5.0 x 4.4 x 0.9mm Body,16 Lead, 0.65mm Pitch; RoHS: Y; PinCount: 16; High-Reliability: Y; Code_JEDEC: MO-153-ABT; ComponentLink1Description: Manufacturer URL; ComponentLink1URL: http://www.national.com/; ComponentLink2Description: LM20143 Datasheet; ComponentLink2URL: http://www.national.com/ds/LM/LM20143.pdf; ComponentLink3Description: LM20143 Web Page; ComponentLink3URL: http://www.national.com/pf/LM/LM20143.html; ComponentLink4Description: MXA16A Package Page; ComponentLink4URL: http://www.national.com/packaging/folders/mxa16a.html
footprint MXA16A_N (TSOP, 16-Leads, Body 5x4.4mm, Pitch 0.65mm, Thermal Pad, IPC Medium Density)
footprint MXA16A_L (TSOP, 16-Leads, Body 5x4.4mm, Pitch 0.65mm, Thermal Pad, IPC High Density)
footprint MXA16A_M (TSOP, 16-Leads, Body 5x4.4mm, Pitch 0.65mm, Thermal Pad, IPC Low Density)
pins: 1 SS/TRK, 2 FB (in), 3 PGOOD (oc), 4 COMP, 5 NC, 6 PVIN (power), 7 PVIN (power), 8 SW (power), 9 SW (power), 10 PGND (power), 11 PGND (power), 12 EN (in), 13 VCC (power), 14 AVIN (power), 15 AGND (power), 16 RT (in), 17 DAP (power)

## LM20143MH/NOPB
designator U?
3A, PowerWise Adjustable Frequency Synchronous Buck Regulator, 16-pin TSSOP-EP, Pb-Free; PartNumber: LM20143MH/NOPB; Manufacturer: National Semiconductor; PackageTopMarking: NSUZXYTT*20143*MH; PowerWise: Y; CompType: Switcher; DatasheetVersion: Jun-2011; PackageVersion: revA, Apr-2003; PackageReference: MXA16A; PackageDescription: Molded TSSOP, Jedec, Exposed Pad, 5.0 x 4.4 x 0.9mm Body,16 Lead, 0.65mm Pitch; RoHS: Y; PinCount: 16; High-Reliability: Y; Code_JEDEC: MO-153-ABT; ComponentLink1Description: Manufacturer URL; ComponentLink1URL: http://www.national.com/; ComponentLink2Description: LM20143 Datasheet; ComponentLink2URL: http://www.national.com/ds/LM/LM20143.pdf; ComponentLink3Description: LM20143 Web Page; ComponentLink3URL: http://www.national.com/pf/LM/LM20143.html; ComponentLink4Description: MXA16A Package Page; ComponentLink4URL: http://www.national.com/packaging/folders/mxa16a.html
footprint MXA16A_N (TSOP, 16-Leads, Body 5x4.4mm, Pitch 0.65mm, Thermal Pad, IPC Medium Density)
footprint MXA16A_L (TSOP, 16-Leads, Body 5x4.4mm, Pitch 0.65mm, Thermal Pad, IPC High Density)
footprint MXA16A_M (TSOP, 16-Leads, Body 5x4.4mm, Pitch 0.65mm, Thermal Pad, IPC Low Density)
pins: 1 SS/TRK, 2 FB (in), 3 PGOOD (oc), 4 COMP, 5 NC, 6 PVIN (power), 7 PVIN (power), 8 SW (power), 9 SW (power), 10 PGND (power), 11 PGND (power), 12 EN (in), 13 VCC (power), 14 AVIN (power), 15 AGND (power), 16 RT (in), 17 DAP (power)

## LM20143MHE/NOPB
designator U?
3A, PowerWise Adjustable Frequency Synchronous Buck Regulator, 16-pin TSSOP-EP, Pb-Free; PartNumber: LM20143MHE/NOPB; Manufacturer: National Semiconductor; PackageTopMarking: NSUZXYTT*20143*MH; PowerWise: Y; CompType: Switcher; DatasheetVersion: Jun-2011; PackageVersion: revA, Apr-2003; PackageReference: MXA16A; PackageDescription: Molded TSSOP, Jedec, Exposed Pad, 5.0 x 4.4 x 0.9mm Body,16 Lead, 0.65mm Pitch; RoHS: Y; PinCount: 16; High-Reliability: Y; Code_JEDEC: MO-153-ABT; ComponentLink1Description: Manufacturer URL; ComponentLink1URL: http://www.national.com/; ComponentLink2Description: LM20143 Datasheet; ComponentLink2URL: http://www.national.com/ds/LM/LM20143.pdf; ComponentLink3Description: LM20143 Web Page; ComponentLink3URL: http://www.national.com/pf/LM/LM20143.html; ComponentLink4Description: MXA16A Package Page; ComponentLink4URL: http://www.national.com/packaging/folders/mxa16a.html
footprint MXA16A_N (TSOP, 16-Leads, Body 5x4.4mm, Pitch 0.65mm, Thermal Pad, IPC Medium Density)
footprint MXA16A_L (TSOP, 16-Leads, Body 5x4.4mm, Pitch 0.65mm, Thermal Pad, IPC High Density)
footprint MXA16A_M (TSOP, 16-Leads, Body 5x4.4mm, Pitch 0.65mm, Thermal Pad, IPC Low Density)
pins: 1 SS/TRK, 2 FB (in), 3 PGOOD (oc), 4 COMP, 5 NC, 6 PVIN (power), 7 PVIN (power), 8 SW (power), 9 SW (power), 10 PGND (power), 11 PGND (power), 12 EN (in), 13 VCC (power), 14 AVIN (power), 15 AGND (power), 16 RT (in), 17 DAP (power)

## LM20143MHX/NOPB
designator U?
3A, PowerWise Adjustable Frequency Synchronous Buck Regulator, 16-pin TSSOP-EP, Pb-Free; PartNumber: LM20143MHX/NOPB; Manufacturer: National Semiconductor; PackageTopMarking: NSUZXYTT*20143*MH; PowerWise: Y; CompType: Switcher; DatasheetVersion: Jun-2011; PackageVersion: revA, Apr-2003; PackageReference: MXA16A; PackageDescription: Molded TSSOP, Jedec, Exposed Pad, 5.0 x 4.4 x 0.9mm Body,16 Lead, 0.65mm Pitch; RoHS: Y; PinCount: 16; High-Reliability: Y; Code_JEDEC: MO-153-ABT; ComponentLink1Description: Manufacturer URL; ComponentLink1URL: http://www.national.com/; ComponentLink2Description: LM20143 Datasheet; ComponentLink2URL: http://www.national.com/ds/LM/LM20143.pdf; ComponentLink3Description: LM20143 Web Page; ComponentLink3URL: http://www.national.com/pf/LM/LM20143.html; ComponentLink4Description: MXA16A Package Page; ComponentLink4URL: http://www.national.com/packaging/folders/mxa16a.html
footprint MXA16A_N (TSOP, 16-Leads, Body 5x4.4mm, Pitch 0.65mm, Thermal Pad, IPC Medium Density)
footprint MXA16A_L (TSOP, 16-Leads, Body 5x4.4mm, Pitch 0.65mm, Thermal Pad, IPC High Density)
footprint MXA16A_M (TSOP, 16-Leads, Body 5x4.4mm, Pitch 0.65mm, Thermal Pad, IPC Low Density)
pins: 1 SS/TRK, 2 FB (in), 3 PGOOD (oc), 4 COMP, 5 NC, 6 PVIN (power), 7 PVIN (power), 8 SW (power), 9 SW (power), 10 PGND (power), 11 PGND (power), 12 EN (in), 13 VCC (power), 14 AVIN (power), 15 AGND (power), 16 RT (in), 17 DAP (power)

## LM20143QMH/NOPB
designator U?
3A, PowerWise Adjustable Frequency Synchronous Buck  Regulator, 16-pin TSSOP-EP, 92 Rail; PartNumber: LM20143QMH/NOPB; Manufacturer: National Semiconductor; PackageTopMarking: NSUZXYTT*20143*QMH; PowerWise: Y; CompType: Switcher; DatasheetVersion: Jun-2011; PackageVersion: revA, Apr-2003; PackageReference: MXA16A; PackageDescription: Molded TSSOP, Jedec, Exposed Pad, 5.0 x 4.4 x 0.9mm Body,16 Lead, 0.65mm Pitch; RoHS: Y; PinCount: 16; High-Reliability: Y; Code_JEDEC: MO-153-ABT; ComponentLink1Description: Manufacturer URL; ComponentLink1URL: http://www.national.com/; ComponentLink2Description: LM20143 Datasheet; ComponentLink2URL: http://www.national.com/ds/LM/LM20143.pdf; ComponentLink3Description: LM20143 Web Page; ComponentLink3URL: http://www.national.com/pf/LM/LM20143.html; ComponentLink4Description: MXA16A Package Page; ComponentLink4URL: http://www.national.com/packaging/folders/mxa16a.html
footprint MXA16A_N (TSOP, 16-Leads, Body 5x4.4mm, Pitch 0.65mm, Thermal Pad, IPC Medium Density)
footprint MXA16A_L (TSOP, 16-Leads, Body 5x4.4mm, Pitch 0.65mm, Thermal Pad, IPC High Density)
footprint MXA16A_M (TSOP, 16-Leads, Body 5x4.4mm, Pitch 0.65mm, Thermal Pad, IPC Low Density)
pins: 1 SS/TRK, 2 FB (in), 3 PGOOD (oc), 4 COMP, 5 NC, 6 PVIN (power), 7 PVIN (power), 8 SW (power), 9 SW (power), 10 PGND (power), 11 PGND (power), 12 EN (in), 13 VCC (power), 14 AVIN (power), 15 AGND (power), 16 RT (in), 17 DAP (power)

## LM20143QMHE/NOPB
designator U?
3A, PowerWise Adjustable Frequency Synchronous Buck  Regulator, 16-pin TSSOP-EP, 250 Reel; PartNumber: LM20143QMHE/NOPB; Manufacturer: National Semiconductor; PackageTopMarking: NSUZXYTT*20143*QMH; PowerWise: Y; CompType: Switcher; DatasheetVersion: Jun-2011; PackageVersion: revA, Apr-2003; PackageReference: MXA16A; PackageDescription: Molded TSSOP, Jedec, Exposed Pad, 5.0 x 4.4 x 0.9mm Body,16 Lead, 0.65mm Pitch; RoHS: Y; PinCount: 16; High-Reliability: Y; Code_JEDEC: MO-153-ABT; ComponentLink1Description: Manufacturer URL; ComponentLink1URL: http://www.national.com/; ComponentLink2Description: LM20143 Datasheet; ComponentLink2URL: http://www.national.com/ds/LM/LM20143.pdf; ComponentLink3Description: LM20143 Web Page; ComponentLink3URL: http://www.national.com/pf/LM/LM20143.html; ComponentLink4Description: MXA16A Package Page; ComponentLink4URL: http://www.national.com/packaging/folders/mxa16a.html
footprint MXA16A_N (TSOP, 16-Leads, Body 5x4.4mm, Pitch 0.65mm, Thermal Pad, IPC Medium Density)
footprint MXA16A_L (TSOP, 16-Leads, Body 5x4.4mm, Pitch 0.65mm, Thermal Pad, IPC High Density)
footprint MXA16A_M (TSOP, 16-Leads, Body 5x4.4mm, Pitch 0.65mm, Thermal Pad, IPC Low Density)
pins: 1 SS/TRK, 2 FB (in), 3 PGOOD (oc), 4 COMP, 5 NC, 6 PVIN (power), 7 PVIN (power), 8 SW (power), 9 SW (power), 10 PGND (power), 11 PGND (power), 12 EN (in), 13 VCC (power), 14 AVIN (power), 15 AGND (power), 16 RT (in), 17 DAP (power)

## LM20143QMHX/NOPB
designator U?
3A, PowerWise Adjustable Frequency Synchronous Buck  Regulator, 16-pin TSSOP-EP, 2500 Reel; PartNumber: LM20143QMHX/NOPB; Manufacturer: National Semiconductor; PackageTopMarking: NSUZXYTT*20143*QMH; PowerWise: Y; CompType: Switcher; DatasheetVersion: Jun-2011; PackageVersion: revA, Apr-2003; PackageReference: MXA16A; PackageDescription: Molded TSSOP, Jedec, Exposed Pad, 5.0 x 4.4 x 0.9mm Body,16 Lead, 0.65mm Pitch; RoHS: Y; PinCount: 16; High-Reliability: Y; Code_JEDEC: MO-153-ABT; ComponentLink1Description: Manufacturer URL; ComponentLink1URL: http://www.national.com/; ComponentLink2Description: LM20143 Datasheet; ComponentLink2URL: http://www.national.com/ds/LM/LM20143.pdf; ComponentLink3Description: LM20143 Web Page; ComponentLink3URL: http://www.national.com/pf/LM/LM20143.html; ComponentLink4Description: MXA16A Package Page; ComponentLink4URL: http://www.national.com/packaging/folders/mxa16a.html
footprint MXA16A_N (TSOP, 16-Leads, Body 5x4.4mm, Pitch 0.65mm, Thermal Pad, IPC Medium Density)
footprint MXA16A_L (TSOP, 16-Leads, Body 5x4.4mm, Pitch 0.65mm, Thermal Pad, IPC High Density)
footprint MXA16A_M (TSOP, 16-Leads, Body 5x4.4mm, Pitch 0.65mm, Thermal Pad, IPC Low Density)
pins: 1 SS/TRK, 2 FB (in), 3 PGOOD (oc), 4 COMP, 5 NC, 6 PVIN (power), 7 PVIN (power), 8 SW (power), 9 SW (power), 10 PGND (power), 11 PGND (power), 12 EN (in), 13 VCC (power), 14 AVIN (power), 15 AGND (power), 16 RT (in), 17 DAP (power)

## LM20144MH
designator U?
4A, PowerWise Adjustable Frequency Synchronous Buck Regulator, 16-pin TSSOP-EP; PartNumber: LM20144MH; Manufacturer: National Semiconductor; PackageTopMarking: NSUZXYTT*20144*MH; PowerWise: Y; CompType: Switcher; DatasheetVersion: Jan-2008; PackageVersion: revA, Apr-2003; PackageReference: MXA16A; PackageDescription: Molded TSSOP, Jedec, Exposed Pad, 5.0 x 4.4 x 0.9mm Body,16 Lead, 0.65mm Pitch; RoHS: Y; PinCount: 16; High-Reliability: Y; Code_JEDEC: MO-153-ABT; ComponentLink1Description: Manufacturer URL; ComponentLink1URL: http://www.national.com/; ComponentLink2Description: LM20144 Datasheet; ComponentLink2URL: http://www.national.com/ds/LM/LM20144.pdf; ComponentLink3Description: LM20144 Web Page; ComponentLink3URL: http://www.national.com/pf/LM/LM20144.html; ComponentLink4Description: MXA16A Package Page; ComponentLink4URL: http://www.national.com/packaging/folders/mxa16a.html
footprint MXA16A_N (TSOP, 16-Leads, Body 5x4.4mm, Pitch 0.65mm, Thermal Pad, IPC Medium Density)
footprint MXA16A_L (TSOP, 16-Leads, Body 5x4.4mm, Pitch 0.65mm, Thermal Pad, IPC High Density)
footprint MXA16A_M (TSOP, 16-Leads, Body 5x4.4mm, Pitch 0.65mm, Thermal Pad, IPC Low Density)
pins: 1 SS/TRK, 2 FB (in), 3 PGOOD (oc), 4 COMP, 5 NC, 6 PVIN (power), 7 PVIN (power), 8 SW (power), 9 SW (power), 10 PGND (power), 11 PGND (power), 12 EN (in), 13 VCC (power), 14 AVIN (power), 15 AGND (power), 16 RT (in), 17 DAP (power)

## LM20144MH/NOPB
designator U?
4A, PowerWise Adjustable Frequency Synchronous Buck Regulator, 16-pin TSSOP-EP, Pb-Free; PartNumber: LM20144MH/NOPB; Manufacturer: National Semiconductor; PackageTopMarking: NSUZXYTT*20144*MH; PowerWise: Y; CompType: Switcher; DatasheetVersion: Jan-2008; PackageVersion: revA, Apr-2003; PackageReference: MXA16A; PackageDescription: Molded TSSOP, Jedec, Exposed Pad, 5.0 x 4.4 x 0.9mm Body,16 Lead, 0.65mm Pitch; RoHS: Y; PinCount: 16; High-Reliability: Y; Code_JEDEC: MO-153-ABT; ComponentLink1Description: Manufacturer URL; ComponentLink1URL: http://www.national.com/; ComponentLink2Description: LM20144 Datasheet; ComponentLink2URL: http://www.national.com/ds/LM/LM20144.pdf; ComponentLink3Description: LM20144 Web Page; ComponentLink3URL: http://www.national.com/pf/LM/LM20144.html; ComponentLink4Description: MXA16A Package Page; ComponentLink4URL: http://www.national.com/packaging/folders/mxa16a.html
footprint MXA16A_N (TSOP, 16-Leads, Body 5x4.4mm, Pitch 0.65mm, Thermal Pad, IPC Medium Density)
footprint MXA16A_L (TSOP, 16-Leads, Body 5x4.4mm, Pitch 0.65mm, Thermal Pad, IPC High Density)
footprint MXA16A_M (TSOP, 16-Leads, Body 5x4.4mm, Pitch 0.65mm, Thermal Pad, IPC Low Density)
pins: 1 SS/TRK, 2 FB (in), 3 PGOOD (oc), 4 COMP, 5 NC, 6 PVIN (power), 7 PVIN (power), 8 SW (power), 9 SW (power), 10 PGND (power), 11 PGND (power), 12 EN (in), 13 VCC (power), 14 AVIN (power), 15 AGND (power), 16 RT (in), 17 DAP (power)

## LM20144MHE/NOPB
designator U?
4A, PowerWise Adjustable Frequency Synchronous Buck Regulator, 16-pin TSSOP-EP, Pb-Free; PartNumber: LM20144MHE/NOPB; Manufacturer: National Semiconductor; PackageTopMarking: NSUZXYTT*20144*MH; PowerWise: Y; CompType: Switcher; DatasheetVersion: Jan-2008; PackageVersion: revA, Apr-2003; PackageReference: MXA16A; PackageDescription: Molded TSSOP, Jedec, Exposed Pad, 5.0 x 4.4 x 0.9mm Body,16 Lead, 0.65mm Pitch; RoHS: Y; PinCount: 16; High-Reliability: Y; Code_JEDEC: MO-153-ABT; ComponentLink1Description: Manufacturer URL; ComponentLink1URL: http://www.national.com/; ComponentLink2Description: LM20144 Datasheet; ComponentLink2URL: http://www.national.com/ds/LM/LM20144.pdf; ComponentLink3Description: LM20144 Web Page; ComponentLink3URL: http://www.national.com/pf/LM/LM20144.html; ComponentLink4Description: MXA16A Package Page; ComponentLink4URL: http://www.national.com/packaging/folders/mxa16a.html
footprint MXA16A_N (TSOP, 16-Leads, Body 5x4.4mm, Pitch 0.65mm, Thermal Pad, IPC Medium Density)
footprint MXA16A_L (TSOP, 16-Leads, Body 5x4.4mm, Pitch 0.65mm, Thermal Pad, IPC High Density)
footprint MXA16A_M (TSOP, 16-Leads, Body 5x4.4mm, Pitch 0.65mm, Thermal Pad, IPC Low Density)
pins: 1 SS/TRK, 2 FB (in), 3 PGOOD (oc), 4 COMP, 5 NC, 6 PVIN (power), 7 PVIN (power), 8 SW (power), 9 SW (power), 10 PGND (power), 11 PGND (power), 12 EN (in), 13 VCC (power), 14 AVIN (power), 15 AGND (power), 16 RT (in), 17 DAP (power)

## LM20144MHX/NOPB
designator U?
4A, PowerWise Adjustable Frequency Synchronous Buck Regulator, 16-pin TSSOP-EP, Pb-Free; PartNumber: LM20144MHX/NOPB; Manufacturer: National Semiconductor; PackageTopMarking: NSUZXYTT*20144*MH; PowerWise: Y; CompType: Switcher; DatasheetVersion: Jan-2008; PackageVersion: revA, Apr-2003; PackageReference: MXA16A; PackageDescription: Molded TSSOP, Jedec, Exposed Pad, 5.0 x 4.4 x 0.9mm Body,16 Lead, 0.65mm Pitch; RoHS: Y; PinCount: 16; High-Reliability: Y; Code_JEDEC: MO-153-ABT; ComponentLink1Description: Manufacturer URL; ComponentLink1URL: http://www.national.com/; ComponentLink2Description: LM20144 Datasheet; ComponentLink2URL: http://www.national.com/ds/LM/LM20144.pdf; ComponentLink3Description: LM20144 Web Page; ComponentLink3URL: http://www.national.com/pf/LM/LM20144.html; ComponentLink4Description: MXA16A Package Page; ComponentLink4URL: http://www.national.com/packaging/folders/mxa16a.html
footprint MXA16A_N (TSOP, 16-Leads, Body 5x4.4mm, Pitch 0.65mm, Thermal Pad, IPC Medium Density)
footprint MXA16A_L (TSOP, 16-Leads, Body 5x4.4mm, Pitch 0.65mm, Thermal Pad, IPC High Density)
footprint MXA16A_M (TSOP, 16-Leads, Body 5x4.4mm, Pitch 0.65mm, Thermal Pad, IPC Low Density)
pins: 1 SS/TRK, 2 FB (in), 3 PGOOD (oc), 4 COMP, 5 NC, 6 PVIN (power), 7 PVIN (power), 8 SW (power), 9 SW (power), 10 PGND (power), 11 PGND (power), 12 EN (in), 13 VCC (power), 14 AVIN (power), 15 AGND (power), 16 RT (in), 17 DAP (power)

## LM20145MH
designator U?
5A, PowerWise Adjustable Frequency Synchronous Buck Regulator, 16-pin TSSOP-EP; PartNumber: LM20145MH; Manufacturer: National Semiconductor; PackageTopMarking: NSUZXYTT*20145*MH; PowerWise: Y; CompType: Switcher; DatasheetVersion: Jan-2008; PackageVersion: revA, Apr-2003; PackageReference: MXA16A; PackageDescription: Molded TSSOP, Jedec, Exposed Pad, 5.0 x 4.4 x 0.9mm Body,16 Lead, 0.65mm Pitch; RoHS: Y; PinCount: 16; High-Reliability: Y; Code_JEDEC: MO-153-ABT; ComponentLink1Description: Manufacturer URL; ComponentLink1URL: http://www.national.com/; ComponentLink2Description: LM20145 Datasheet; ComponentLink2URL: http://www.national.com/ds/LM/LM20145.pdf; ComponentLink3Description: LM20145 Web Page; ComponentLink3URL: http://www.national.com/pf/LM/LM20145.html; ComponentLink4Description: MXA16A Package Page; ComponentLink4URL: http://www.national.com/packaging/folders/mxa16a.html
footprint MXA16A_N (TSOP, 16-Leads, Body 5x4.4mm, Pitch 0.65mm, Thermal Pad, IPC Medium Density)
footprint MXA16A_L (TSOP, 16-Leads, Body 5x4.4mm, Pitch 0.65mm, Thermal Pad, IPC High Density)
footprint MXA16A_M (TSOP, 16-Leads, Body 5x4.4mm, Pitch 0.65mm, Thermal Pad, IPC Low Density)
pins: 1 SS/TRK, 2 FB (in), 3 PGOOD (oc), 4 COMP, 5 NC, 6 PVIN (power), 7 PVIN (power), 8 SW (power), 9 SW (power), 10 PGND (power), 11 PGND (power), 12 EN (in), 13 VCC (power), 14 AVIN (power), 15 AGND (power), 16 RT (in), 17 DAP (power)

## LM20145MH/NOPB
designator U?
5A, PowerWise Adjustable Frequency Synchronous Buck Regulator, 16-pin TSSOP-EP, Pb-Free; PartNumber: LM20145MH/NOPB; Manufacturer: National Semiconductor; PackageTopMarking: NSUZXYTT*20145*MH; PowerWise: Y; CompType: Switcher; DatasheetVersion: Jan-2008; PackageVersion: revA, Apr-2003; PackageReference: MXA16A; PackageDescription: Molded TSSOP, Jedec, Exposed Pad, 5.0 x 4.4 x 0.9mm Body,16 Lead, 0.65mm Pitch; RoHS: Y; PinCount: 16; High-Reliability: Y; Code_JEDEC: MO-153-ABT; ComponentLink1Description: Manufacturer URL; ComponentLink1URL: http://www.national.com/; ComponentLink2Description: LM20145 Datasheet; ComponentLink2URL: http://www.national.com/ds/LM/LM20145.pdf; ComponentLink3Description: LM20145 Web Page; ComponentLink3URL: http://www.national.com/pf/LM/LM20145.html; ComponentLink4Description: MXA16A Package Page; ComponentLink4URL: http://www.national.com/packaging/folders/mxa16a.html
footprint MXA16A_N (TSOP, 16-Leads, Body 5x4.4mm, Pitch 0.65mm, Thermal Pad, IPC Medium Density)
footprint MXA16A_L (TSOP, 16-Leads, Body 5x4.4mm, Pitch 0.65mm, Thermal Pad, IPC High Density)
footprint MXA16A_M (TSOP, 16-Leads, Body 5x4.4mm, Pitch 0.65mm, Thermal Pad, IPC Low Density)
pins: 1 SS/TRK, 2 FB (in), 3 PGOOD (oc), 4 COMP, 5 NC, 6 PVIN (power), 7 PVIN (power), 8 SW (power), 9 SW (power), 10 PGND (power), 11 PGND (power), 12 EN (in), 13 VCC (power), 14 AVIN (power), 15 AGND (power), 16 RT (in), 17 DAP (power)

## LM20145MHE/NOPB
designator U?
5A, PowerWise Adjustable Frequency Synchronous Buck Regulator, 16-pin TSSOP-EP, Pb-Free; PartNumber: LM20145MHE/NOPB; Manufacturer: National Semiconductor; PackageTopMarking: NSUZXYTT*20145*MH; PowerWise: Y; CompType: Switcher; DatasheetVersion: Jan-2008; PackageVersion: revA, Apr-2003; PackageReference: MXA16A; PackageDescription: Molded TSSOP, Jedec, Exposed Pad, 5.0 x 4.4 x 0.9mm Body,16 Lead, 0.65mm Pitch; RoHS: Y; PinCount: 16; High-Reliability: Y; Code_JEDEC: MO-153-ABT; ComponentLink1Description: Manufacturer URL; ComponentLink1URL: http://www.national.com/; ComponentLink2Description: LM20145 Datasheet; ComponentLink2URL: http://www.national.com/ds/LM/LM20145.pdf; ComponentLink3Description: LM20145 Web Page; ComponentLink3URL: http://www.national.com/pf/LM/LM20145.html; ComponentLink4Description: MXA16A Package Page; ComponentLink4URL: http://www.national.com/packaging/folders/mxa16a.html
footprint MXA16A_N (TSOP, 16-Leads, Body 5x4.4mm, Pitch 0.65mm, Thermal Pad, IPC Medium Density)
footprint MXA16A_L (TSOP, 16-Leads, Body 5x4.4mm, Pitch 0.65mm, Thermal Pad, IPC High Density)
footprint MXA16A_M (TSOP, 16-Leads, Body 5x4.4mm, Pitch 0.65mm, Thermal Pad, IPC Low Density)
pins: 1 SS/TRK, 2 FB (in), 3 PGOOD (oc), 4 COMP, 5 NC, 6 PVIN (power), 7 PVIN (power), 8 SW (power), 9 SW (power), 10 PGND (power), 11 PGND (power), 12 EN (in), 13 VCC (power), 14 AVIN (power), 15 AGND (power), 16 RT (in), 17 DAP (power)